# EAGLE library part SPV1040 (library jmolterLib)
Solar Charge Controller
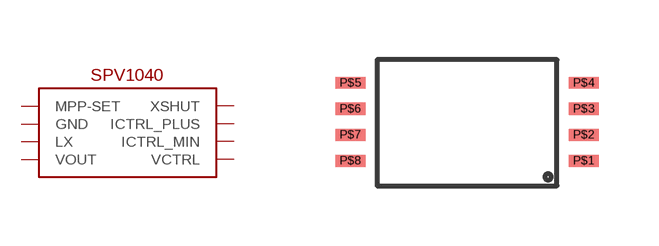
[diagram p1: symbol with the pads of TSSOP8; footprint TSSOP8]

Designator prefix -

## SPV1040  [TSSOP8]
P$1  MPP-SET
P$2  GND
P$3  LX
P$4  VOUT
P$5  VCTRL
P$6  ICTRL_MIN
P$7  ICTRL_PLUS
P$8  XSHUT

## Footprint TSSOP8 (pad centres in mm)
smd 0.75 x 0.3: P$1 2.92,-0.975; P$2 2.92,-0.325; P$3 2.92,0.325; P$4 2.92,0.975; P$5 -2.92,0.975; P$6 -2.92,0.325; P$7 -2.92,-0.325; P$8 -2.92,-0.975